# Altium footprint library PcbLib1.PcbLib: 29 footprints (part 1 of 2)
Each footprint in its own frame and in the unit in brackets; x right, y up, seen from the top. Pads: shape width x height; smd on the part's side, far side on the other; paste and mask are expansions set on the pad; w line width, h text height; cw(c..) or ccw(c..) is an arc to the next point about the centre after c.
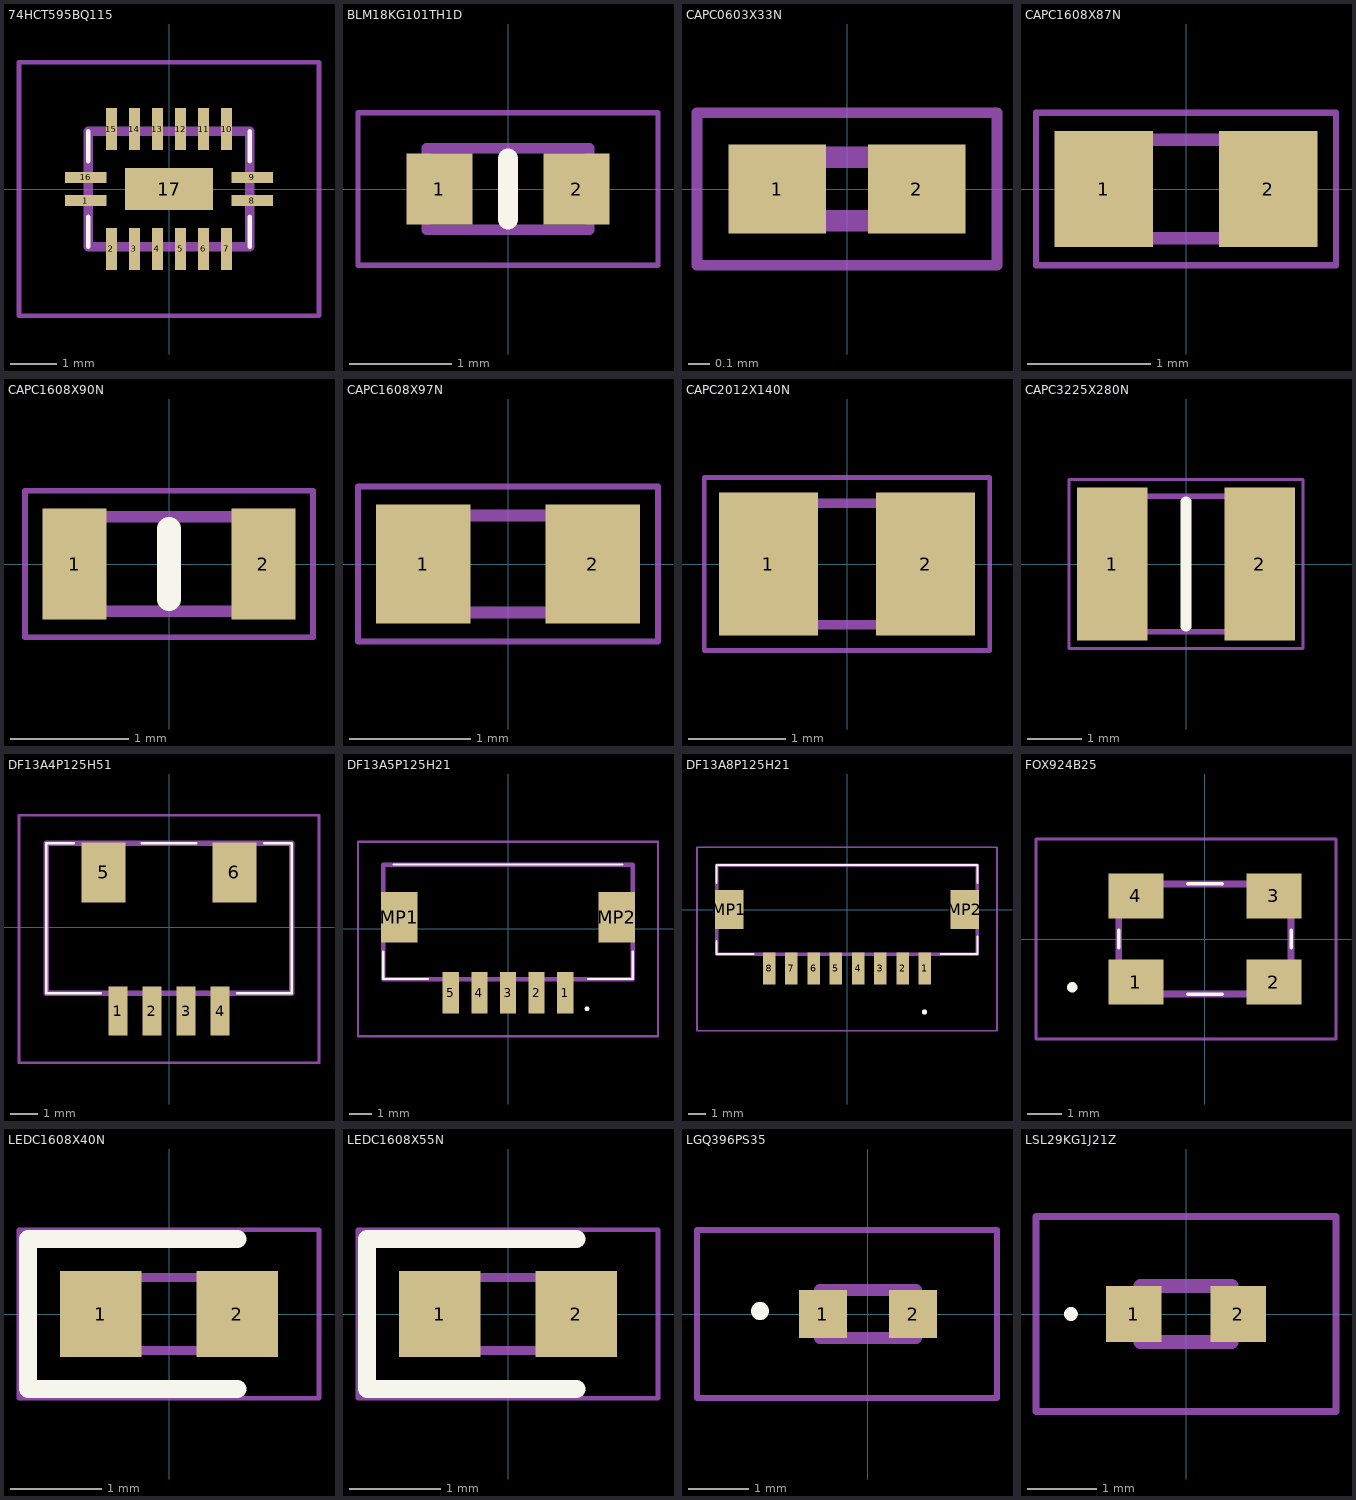
[diagram p0: the footprints below, top view; thin cyan lines are the x and y axes]

## 74HCT595BQ115 [mm]
pads (17):
  rect 0.9x0.24 smd: 1(-1.8,-0.25) 8(1.8,-0.25) 9(1.8,0.25) 16(-1.8,0.25)
  rect 0.24x0.9 smd: 2(-1.25,-1.3) 3(-0.75,-1.3) 4(-0.25,-1.3) 5(0.25,-1.3) 6(0.75,-1.3) 7(1.25,-1.3) 10(1.25,1.3) 11(0.75,1.3) 12(0.25,1.3) 13(-0.25,1.3) 14(-0.75,1.3) 15(-1.25,1.3)
  rect 1.9x0.9 smd: 17(0,0)
Top Overlay:
  lines w0.1: -1.75,-1.25 -1.75,-0.6 ; -1.75,0.6 -1.75,1.25 ; 1.75,-1.25 1.75,-0.6 ; 1.75,0.6 1.75,1.25
Mechanical 13:
  lines w0.2: -1.75,-1.25 -1.75,1.25 1.75,1.25 1.75,-1.25 -1.75,-1.25
Mechanical 15:
  lines w0.1: -3.25,-2.75 -3.25,2.75 3.25,2.75 3.25,-2.75 -3.25,-2.75
3D body "74LVC138ABQ,115.stp": height 1, standoff 0, extent -1.8,-1.3 1.8,1.3

## BLM18KG101TH1D [mm]
pads (2):
  rect 0.65x0.7 smd: 1(-0.675,0) 2(0.675,0)
Top Overlay:
  lines w0.2: 0,-0.3 0,0.3
Mechanical 13:
  lines w0.1: -0.8,-0.4 -0.8,0.4 0.8,0.4 0.8,-0.4 -0.8,-0.4
Mechanical 15:
  lines w0.05: -1.475,-0.75 -1.475,0.75 1.475,0.75 1.475,-0.75 -1.475,-0.75
3D body "BLM18KG300TH1D.stp": height 0.85, standoff 0, extent -0.935,-0.4 0.935,0.4

## CAPC0603X33N [mm]
pads (2):
  rect 0.46x0.42 smd: 1(-0.33,0) 2(0.33,0)
Mechanical 13:
  lines w0.1: -0.3,-0.15 0.3,-0.15 0.3,0.15 -0.3,0.15 -0.3,-0.15
Mechanical 15:
  lines w0.05: -0.71,-0.36 0.71,-0.36 0.71,0.36 -0.71,0.36 -0.71,-0.36
3D body "GRM033R71E102KA01D.stp": height 0.33, standoff 0, extent -0.3,-0.15 0.3,0.15

## CAPC1608X87N [mm]
pads (2):
  rect 0.8x0.94 smd: 1(-0.67,0) 2(0.67,0)
Mechanical 13:
  lines w0.1: -0.8,-0.4 0.8,-0.4 0.8,0.4 -0.8,0.4 -0.8,-0.4
Mechanical 15:
  lines w0.05: -1.22,-0.62 1.22,-0.62 1.22,0.62 -1.22,0.62 -1.22,-0.62
3D body "885012206075.stp": height 0.87, standoff 0, extent -0.8,-0.4 0.8,0.4

## CAPC1608X90N [mm]
pads (2):
  rect 0.54x0.94 smd: 1(-0.8,0) 2(0.8,0)
Top Overlay:
  lines w0.2: 0,-0.3 0,0.3
Mechanical 13:
  lines w0.1: -0.8,-0.4 -0.8,0.4 0.8,0.4 0.8,-0.4 -0.8,-0.4
Mechanical 15:
  lines w0.05: -1.22,-0.62 -1.22,0.62 1.22,0.62 1.22,-0.62 -1.22,-0.62
3D body "CGA3E2X7R1H473K080AA.stp": height 0.9, standoff 0, extent -0.8,-0.4 0.8,0.4

## CAPC1608X97N [mm]
pads (2):
  rect 0.78x0.98 smd: 1(-0.7,0) 2(0.7,0)
Mechanical 13:
  lines w0.1: -0.8,-0.4 0.8,-0.4 0.8,0.4 -0.8,0.4 -0.8,-0.4
Mechanical 15:
  lines w0.05: -1.24,-0.64 1.24,-0.64 1.24,0.64 -1.24,0.64 -1.24,-0.64
3D body "VJ0603Y104JXJAC.stp": height 0.97, standoff 0, extent -0.8,-0.4 0.8,0.4

## CAPC2012X140N [mm]
pads (2):
  rect 1.02x1.47 smd: 1(-0.81,0) 2(0.81,0)
Mechanical 13:
  lines w0.1: -1.005,-0.625 -1.005,0.625 1.005,0.625 1.005,-0.625 -1.005,-0.625
Mechanical 15:
  lines w0.05: -1.47,-0.89 -1.47,0.89 1.47,0.89 1.47,-0.89 -1.47,-0.89
3D body "08051C474KAT2A.stp": height 1.4, standoff 0, extent -1.005,-0.625 1.005,0.625

## CAPC3225X280N [mm]
pads (2):
  rect 1.3x2.82 smd: 1(-1.36,0) 2(1.36,0)
Top Overlay:
  lines w0.2: 0,-1.15 0,1.15
Mechanical 13:
  lines w0.1: -1.6,-1.25 1.6,-1.25 1.6,1.25 -1.6,1.25 -1.6,-1.25
Mechanical 15:
  lines w0.05: -2.16,-1.56 2.16,-1.56 2.16,1.56 -2.16,1.56 -2.16,-1.56
3D body "CL32B106KMVNNWE.stp": height 2.8, standoff 0, extent -1.6,-1.25 1.6,1.25

## DF13A4P125H51 [mm]
pads (6):
  rect 0.7x1.8 smd: 1(-1.875,-3.075) 2(-0.625,-3.075) 3(0.625,-3.075) 4(1.875,-3.075)
  rect 1.6x2.2 smd: 5(-2.4,2.005) 6(2.4,2.005)
Top Overlay:
  lines w0.1: -3.5,3.075 -4.5,3.075 -4.5,-2.425 -2.5,-2.425 ; -1,3.075 1,3.075 ; 2.5,-2.425 4.5,-2.425 4.5,3.075 3.5,3.075
Mechanical 13:
  lines w0.2: -4.5,-2.425 4.5,-2.425 4.5,3.075 -4.5,3.075 -4.5,-2.425
Mechanical 15:
  lines w0.1: -5.5,-4.975 5.5,-4.975 5.5,4.105 -5.5,4.105 -5.5,-4.975
3D body "DF13A-4P-1.25H_51_.stp": height 3.1, standoff 0, extent -4.5,-3.905 4.5,3.075

## DF13A5P125H21 [mm]
pads (7):
  rect 0.7x1.8 smd: 1(2.5,-2.8) 2(1.25,-2.8) 3(0,-2.8) 4(-1.25,-2.8) 5(-2.5,-2.8)
  rect 1.6x2.2 smd: MP1(-4.75,0.5) MP2(4.75,0.5)
Top Overlay:
  lines w0.1: -5.45,-1 -5.45,-2.2 -3.5,-2.2 ; -5,2.8 5,2.8 ; 3.5,-2.2 5.45,-2.2 5.45,-1 ; 3.4,-3.5 ccw(c3.45,-3.5) 3.5,-3.5 ccw(c3.45,-3.5) 3.4,-3.5
Mechanical 13:
  lines w0.2: -5.45,-2.2 -5.45,2.8 5.45,2.8 5.45,-2.2 -5.45,-2.2
Mechanical 15:
  lines w0.1: -6.55,-4.7 -6.55,3.8 6.55,3.8 6.55,-4.7 -6.55,-4.7
3D body "DF13A-5P-1.25H_21_.stp": height 3.85, standoff 0, extent -5.45,-3.63 5.45,2.8

## DF13A8P125H21 [mm]
pads (10):
  rect 0.7x1.8 smd: 1(4.375,-3.3) 2(3.125,-3.3) 3(1.875,-3.3) 4(0.625,-3.3) 5(-0.625,-3.3) 6(-1.875,-3.3) 7(-3.125,-3.3) 8(-4.375,-3.3)
  rect 1.6x2.2 smd: MP1(-6.625,0) MP2(6.625,0)
Top Overlay:
  lines w0.1: -7.325,-2.5 -5.25,-2.5 -7.325,-2.5 ; -7.325,-2.5 -7.325,-1.75 -7.325,-2.5 ; 7.325,-2.5 7.325,-1.5 7.325,-2.5 ; 7.325,-2.5 5.25,-2.5 7.325,-2.5 ; 7.325,2.5 -7.25,2.5 7.325,2.5 ; 7.325,2.5 7.325,1.5 7.325,2.5 ; -7.325,1.5 -7.325,2.5 -7.325,1.5
  lines w0.2: 4.3,-5.75 ccw(c4.35,-5.75) 4.4,-5.75 ; 4.3,-5.75 cw(c4.35,-5.75) 4.4,-5.75 ; 4.3,-5.75 ccw(c4.35,-5.75) 4.4,-5.75
Mechanical 13:
  lines w0.2: -7.325,-2.5 -7.325,2.5 7.325,2.5 7.325,-2.5 -7.325,-2.5
Mechanical 15:
  lines w0.1: -8.425,-6.8 -8.425,3.5 8.425,3.5 8.425,-6.8 -8.425,-6.8
3D body "DF13A-8P-1.25H_21_.stp": height 3.7, standoff 0, extent -7.325,-4.13 7.325,2.5

## FOX924B25 [mm]
pads (4):
  rect 1.6x1.3 smd: 1(-2,-1.25) 2(2,-1.25) 3(2,1.25) 4(-2,1.25)
Top Overlay:
  lines w0.1: -2.5,-0.25 -2.5,0.25 -2.5,-0.25 ; -0.5,-1.6 0.5,-1.6 -0.5,-1.6 ; -0.5,1.6 0.5,1.6 -0.5,1.6 ; 2.5,-0.25 2.5,0.25 2.5,-0.25
  lines w0.2: -3.9,-1.4 ccw(c-3.85,-1.4) -3.8,-1.4 ; -3.9,-1.4 cw(c-3.85,-1.4) -3.8,-1.4 ; -3.9,-1.4 ccw(c-3.85,-1.4) -3.8,-1.4
Mechanical 13:
  lines w0.2: -2.5,-1.6 2.5,-1.6 2.5,1.6 -2.5,1.6 -2.5,-1.6
Mechanical 15:
  lines w0.1: -4.9,-2.9 3.8,-2.9 3.8,2.9 -4.9,2.9 -4.9,-2.9
3D body "FOX924B-27.stp": height 1.6, standoff 0, extent -2.67,-1.77 2.67,1.77

## LEDC1608X40N [mm]
pads (2):
  rect 0.9x0.95 smd: 1(-0.75,0) 2(0.75,0)
Top Overlay:
  lines w0.2: 0.75,-0.825 -1.55,-0.825 -1.55,0.825 0.75,0.825
Mechanical 13:
  lines w0.1: -0.8,0.133 -0.533,0.4 ; -0.8,-0.4 -0.8,0.4 0.8,0.4 0.8,-0.4 -0.8,-0.4
Mechanical 15:
  lines w0.05: -1.65,-0.925 -1.65,0.925 1.65,0.925 1.65,-0.925 -1.65,-0.925
3D body "LG_Q396-PS-35.stp": height 0.5, standoff 0, extent -0.8,-0.4 0.8,0.4

## LEDC1608X55N [mm]
pads (2):
  rect 0.9x0.95 smd: 1(-0.75,0) 2(0.75,0)
Top Overlay:
  lines w0.2: 0.75,-0.825 -1.55,-0.825 -1.55,0.825 0.75,0.825
Mechanical 13:
  lines w0.1: -0.8,0.133 -0.533,0.4 ; -0.8,-0.4 0.8,-0.4 0.8,0.4 -0.8,0.4 -0.8,-0.4
Mechanical 15:
  lines w0.05: -1.65,-0.925 1.65,-0.925 1.65,0.925 -1.65,0.925 -1.65,-0.925
3D body "LG_Q396-PS-35.stp": height 0.5, standoff 0, extent -0.8,-0.4 0.8,0.4

## LGQ396PS35 [mm]
pads (2):
  rect 0.8x0.8 smd: 1(-0.75,0) 2(0.75,0)
Top Overlay:
  lines w0.2: -1.8,0 ccw(c-1.8,0.05) -1.8,0.1 ; -1.8,0 cw(c-1.8,0.05) -1.8,0.1 ; -1.8,0 ccw(c-1.8,0.05) -1.8,0.1
Mechanical 13:
  lines w0.2: -0.8,-0.4 -0.8,0.4 0.8,0.4 0.8,-0.4 -0.8,-0.4
Mechanical 15:
  lines w0.1: -2.85,-1.4 -2.85,1.4 2.15,1.4 2.15,-1.4 -2.85,-1.4
3D body "LG_Q396-PS-35.stp": height 0.5, standoff 0, extent -0.8,-0.4 0.8,0.4

## LSL29KG1J21Z [mm]
pads (2):
  rect 0.8x0.8 smd: 1(-0.75,0) 2(0.75,0)
Top Overlay:
  lines w0.1: -1.7,0 ccw(c-1.65,0) -1.6,0 ccw(c-1.65,0) -1.7,0
Mechanical 13:
  lines w0.2: -0.65,-0.4 -0.65,0.4 0.65,0.4 0.65,-0.4 -0.65,-0.4
Mechanical 15:
  lines w0.1: -2.15,-1.4 -2.15,1.4 2.15,1.4 2.15,-1.4 -2.15,-1.4
3D body "LS_L29K-G1J2-1-Z.stp": height 0.77, standoff 0, extent -0.65,-0.4 0.65,0.4